# EAGLE library part AD8495 (library HEXABITZ_ICs)
AD8495 Analog out Board Mount Temperature Sensors Thermocouple Amp w/Cold Jct Compensat Mouser Part No: 584-AD8495ARMZ Manufacturer Part No: AD8495ARMZ
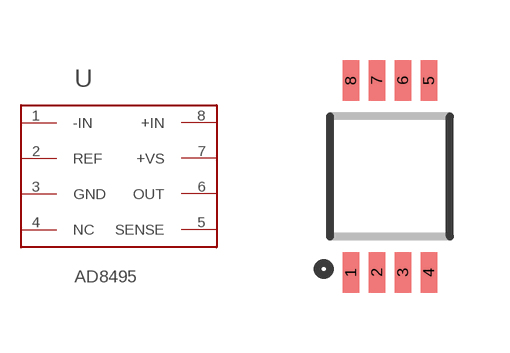
[diagram p7: symbol with the pads of MSOP-8; footprint MSOP-8]

Designator prefix -

## AD8495 (DESCRIPTION: IC THERMOCOUPLE A W/COMP 8MSOP; MFN: Analog Devices; MPN: AD8495ARMZ-R7; OCTOPART_URL: https://octopart.com/ad8495armz-r7-analog+devices-18791037?r=sp#; PACKAGE: MSOP-8 Analog Devices)  [MSOP-8]
1  -IN  in
2  REF  pwr
3  GND  pwr
4  NC  nc
5  SENSE
6  OUT  out
7  +VS  pwr
8  +IN  in

## Footprint MSOP-8 (pad centres in mm)
smd 0.41 x 1.02: 1 -0.975,-2.4; 2 -0.325,-2.4; 3 0.325,-2.4; 4 0.975,-2.4; 5 0.975,2.4; 6 0.325,2.4; 7 -0.325,2.4; 8 -0.975,2.4